# Altium footprint library EG2208A.PcbLib: 1 footprints
Each footprint in its own frame and in the unit in brackets; x right, y up, seen from the top. Pads: shape width x height; smd on the part's side, far side on the other; paste and mask are expansions set on the pad; w line width, h text height; cw(c..) or ccw(c..) is an arc to the next point about the centre after c.
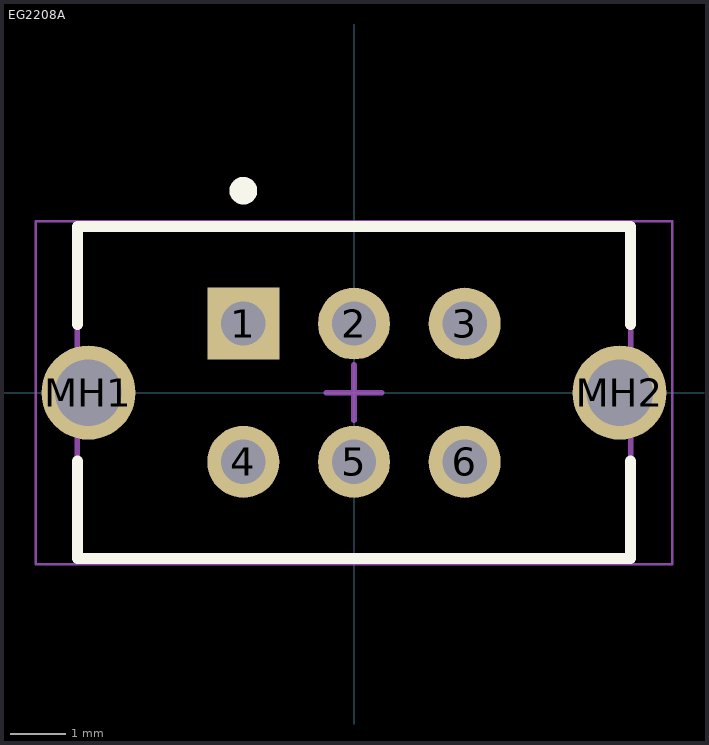
[diagram p0: the footprint, top view; thin cyan lines are the x and y axes]

## EG2208A [mm] "TH, 6-Leads, Body 10x6mm, Pitch 2mm"
height 7.7
pads (8):
  rect 1.3x1.3 hole 0.8 paste+0: 1(-2,1.25)
  round 1.3 hole 0.8 paste+0: 2(0,1.25) 3(2,1.25) 4(-2,-1.25) 5(0,-1.25) 6(2,-1.25)
  round 1.7 hole 1.2: MH1(-4.8,0) MH2(4.8,0)
Top Overlay:
  circle w0.25: c-2,3.65 r0.125
  lines w0.2: -5,-1.234 -5,-3 5,-3 5,-1.234 ; -5,1.234 -5,3 5,3 5,1.234
Mechanical 13:
  lines w0.1: -5,-3 5,-3 5,3 -5,3 -5,-3
Mechanical 15:
  lines w0.05: -5.75,-3.1 -5.75,3.1 5.75,3.1 5.75,-3.1 -5.75,-3.1
  lines w0.1: -0.5,0 0.5,0 ; 0,-0.5 0,0.5
3D body "EG2208A.stp": height 5, standoff -3, extent -5.15,-9 5.15,3